# EAGLE library part PINHD-2X8 (library puggleboard)
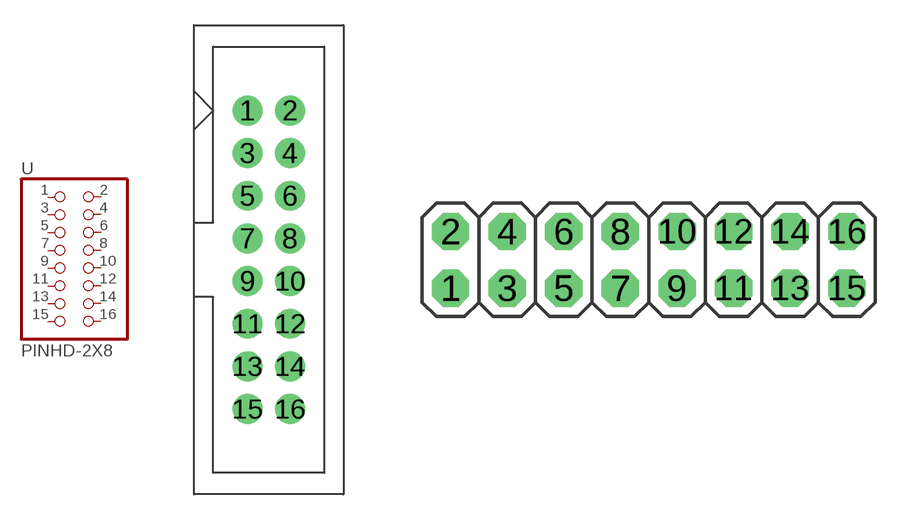
[diagram p5: symbol with the pads of 2X08-IDC; footprints 2X08-IDC, 2X08]

Designator prefix -

## PINHD-2X8IDC-VERT  [2X08-IDC]
1  1  pas
2  2  pas
3  3  pas
4  4  pas
5  5  pas
6  6  pas
7  7  pas
8  8  pas
9  9  pas
10  10  pas
11  11  pas
12  12  pas
13  13  pas
14  14  pas
15  15  pas
16  16  pas

## PINHD-2X8VERT, PINHD-2X8FEMALEVERT (DK: S7111-ND; MN: Sullins; MPN: PPPC082LFBN-RC), PINHD-2X8MALEVERT (DK: 609-3364-ND; MN: FCI; MPN: 68602-116HLF)  [2X08]
Pads as for 2X08-IDC

## PINHD-2X890DEG  [2X08/90]
Pads as for 2X08-IDC

## Footprint 2X08-IDC (pad centres in mm)
drill 1 pad 1.778: 1 -1.27,8.89; 2 1.27,8.89; 3 -1.27,6.35; 4 1.27,6.35; 5 -1.27,3.81; 6 1.27,3.81; 7 -1.27,1.27; 8 1.27,1.27; 9 -1.27,-1.27; 10 1.27,-1.27; 11 -1.27,-3.81; 12 1.27,-3.81; 13 -1.27,-6.35; 14 1.27,-6.35; 15 -1.27,-8.89; 16 1.27,-8.89

## Footprint 2X08 (pad centres in mm)
drill 1.016 pad 1.676 octagon: 1 -8.89,-1.27; 2 -8.89,1.27; 3 -6.35,-1.27; 4 -6.35,1.27; 5 -3.81,-1.27; 6 -3.81,1.27; 7 -1.27,-1.27; 8 -1.27,1.27; 9 1.27,-1.27; 10 1.27,1.27; 11 3.81,-1.27; 12 3.81,1.27; 13 6.35,-1.27; 14 6.35,1.27; 15 8.89,-1.27; 16 8.89,1.27

## Footprint 2X08/90 (pad centres in mm)
drill 1.016 octagon: 1 -8.89,-5.08; 2 -8.89,-2.54; 3 -6.35,-5.08; 4 -6.35,-2.54; 5 -3.81,-5.08; 6 -3.81,-2.54; 7 -1.27,-5.08; 8 -1.27,-2.54; 9 1.27,-2.54; 10 3.81,-2.54; 11 6.35,-2.54; 12 8.89,-2.54; 13 1.27,-5.08; 14 3.81,-5.08; 15 6.35,-5.08; 16 8.89,-5.08